# Altium integrated library transistor.IntLib: 186 symbols
Pins are listed as number, name and electrical type; pins without a type are passive.

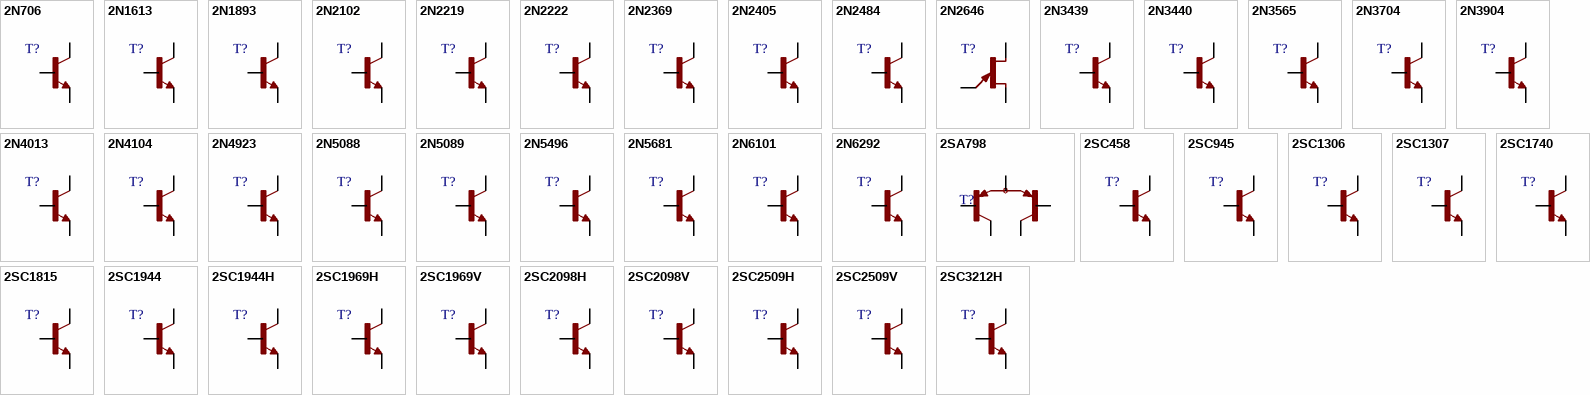
[diagram p0: symbols 2N706 to 2SC3212H]

## 2N706
designator T?, comment NPN TRANSISTOR  (value not drawn)
footprint TO18
pins: 1 E, 2 B, 3 C

## 2N1613
designator T?, comment NPN TRANSISTOR  (value not drawn)
footprint TO5
pins: 1 E, 2 B, 3 C

## 2N1893
designator T?, comment NPN TRANSISTOR  (value not drawn)
footprint TO5
pins: 1 E, 2 B, 3 C

## 2N2102
designator T?, comment NPN TRANSISTOR  (value not drawn)
footprint TO5
pins: 1 E, 2 B, 3 C

## 2N2219
designator T?, comment NPN TRANSISTOR  (value not drawn)
footprint TO5
pins: 1 E, 2 B, 3 C

## 2N2222
designator T?, comment NPN TRANSISTOR  (value not drawn)
footprint TO18
pins: 1 E, 2 B, 3 C

## 2N2369
designator T?, comment NPN TRANSISTOR  (value not drawn)
footprint TO18
pins: 1 E, 2 B, 3 C

## 2N2405
designator T?, comment NPN TRANSISTOR  (value not drawn)
footprint TO5
pins: 1 E, 2 B, 3 C

## 2N2484
designator T?, comment NPN TRANSISTOR  (value not drawn)
footprint TO18
pins: 1 E, 2 B, 3 C

## 2N2646
designator T?, comment UNIJUNCTION TRANSISTOR  (value not drawn)
footprint TO72
pins: 1 E, 2 B1, 4 B2

## 2N3439
designator T?, comment NPN TRANSISTOR  (value not drawn)
footprint TO5
pins: 1 E, 2 B, 3 C

## 2N3440
designator T?, comment NPN TRANSISTOR  (value not drawn)
footprint TO5
pins: 1 E, 2 B, 3 C

## 2N3565
designator T?, comment NPN TRANSISTOR  (value not drawn)
footprint TO92
pins: 1 C, 2 B, 3 E

## 2N3704
designator T?, comment NPN TRANSISTOR  (value not drawn)
footprint TO92
pins: 1 B, 2 C, 3 E

## 2N3904
designator T?, comment NPN TRANSISTOR  (value not drawn)
footprint TO92
pins: 1 C, 2 B, 3 E

## 2N4013
designator T?, comment NPN TRANSISTOR  (value not drawn)
footprint TO18
pins: 1 E, 2 B, 3 C

## 2N4104
designator T?, comment NPN TRANSISTOR  (value not drawn)
footprint TO18
pins: 1 E, 2 B, 3 C

## 2N4923
designator T?, comment NPN TRANSISTOR  (value not drawn)
footprint TO126
pins: 1 E, 2 C, 3 B

## 2N5088
designator T?, comment NPN TRANSISTOR  (value not drawn)
footprint TO92
pins: 1 C, 2 B, 3 E

## 2N5089
designator T?, comment NPN TRANSISTOR  (value not drawn)
footprint TO92
pins: 1 C, 2 B, 3 E

## 2N5496
designator T?, comment NPN TRANSISTOR  (value not drawn)
footprint TO220
pins: 1 B, 2 C, 3 E

## 2N5681
designator T?, comment NPN TRANSISTOR  (value not drawn)
footprint TO5
pins: 1 E, 2 B, 3 C

## 2N6101
designator T?, comment NPN TRANSISTOR  (value not drawn)
footprint TO220
pins: 1 B, 2 C, 3 E

## 2N6292
designator T?, comment NPN TRANSISTOR  (value not drawn)
footprint TO220
pins: 1 B, 2 C, 3 E

## 2SA798
designator T?, comment PNP DIFFERENTAL AMP SIP-5   Source: 2SA798.pdf  (value not drawn)
footprint SIP-5
pins: 1 C1, 2 B1, 3 E, 4 B2, 5 C2

## 2SC458
designator T?, comment NPN Silicon Epitaxial Planar Transistor   Source: SEMTECH ELECTRONICS LTD. ... 2SC458  1.pdf  (value not drawn)
footprint TO92-ECB
pins: B, C, E

## 2SC945
designator T?, comment NPN Silicon Epitaxial Planar Transistor   Source: SEMTECH ELECTRONICS LTD. ... 2SC945  2.pdf  (value not drawn)
footprint TO92-ECB
pins: B, C, E

## 2SC1306
designator T?, comment NPN Transistor Final RF Power Outupt   Source: 2sc1306.pdf  (value not drawn)
footprint TO220BV
pins: 1 B, 2 C, 3 E

## 2SC1307
designator T?, comment NPN Transistor Silicon Epitaxial, High Frequency Power Amplifier   Source: 2SC1307.pdf  (value not drawn)
footprint TO220AV
pins: 1 B, 2 C, 3 E

## 2SC1740
designator T?, comment NPN Silicon Epitaxial Planar Transistor   Source: SEMTECH ELECTRONICS LTD. 2SC1740.pdf  (value not drawn)
footprint TO92-ECB
pins: B, C, E

## 2SC1815
designator T?, comment NPN EPITAXIAL TRANSISTOR   Source: TOSHIBA .. 2SC1815   1.pdf  (value not drawn)
footprint TO92-ECB
pins: B, C, E

## 2SC1944
designator T?, comment NPN Epitaxial Planar Transistor RF Power Amplifier   Source: 2SC1944.pdf  (value not drawn)
footprint T-30_V
pins: 1 B, 2 C, 3 E

## 2SC1944H
designator T?, comment NPN Epitaxial Planar Transistor RF Power Amplifier   Source: 2SC1944.pdf  (value not drawn)
footprint T-30
pins: 1 B, 2 C, 3 E

## 2SC1969H
designator T?, comment NPN Epitaxial Planar Transistor RF Power Amplifier   Source: 2sc1969.pdf  (value not drawn)
footprint T-30
pins: 1 B, 2 C, 3 E

## 2SC1969V
designator T?, comment NPN Epitaxial Planar Transistor RF Power Amplifier   Source: 2sc1969.pdf  (value not drawn)
footprint T-30_V
pins: 1 B, 2 C, 3 E

## 2SC2098H
designator T?, comment NPN Epitaxial Planar Transistor RF Power Amplivier   Source: 2SC2098.pdf  (value not drawn)
footprint TO220
pins: 1 B, 2 C, 3 E

## 2SC2098V
designator T?, comment NPN Epitaxial Planar Transistor RF Power Amplivier   Source: 2SC2098.pdf  (value not drawn)
footprint TO220AV
pins: 1 B, 2 C, 3 E

## 2SC2509H
designator T?, comment NPN Epitaxial Planar Transistor RF Power Amplivier   Source: www.Datasheet4U.com 2SC2905.pdf  (value not drawn)
footprint TO220
pins: 1 B, 2 C, 3 E

## 2SC2509V
designator T?, comment NPN Epitaxial Planar Transistor RF Power Amplivier   Source: www.Datasheet4U.com 2SC2905.pdf  (value not drawn)
footprint TO220AV
pins: 1 B, 2 C, 3 E

## 2SC3212H
designator T?, comment NPN Epitaxial Planar Trnasitor RF Power Amplifier   Source: 2SC3212.pdf  (value not drawn)
footprint TO220
pins: 1 B, 2 C, 3 E

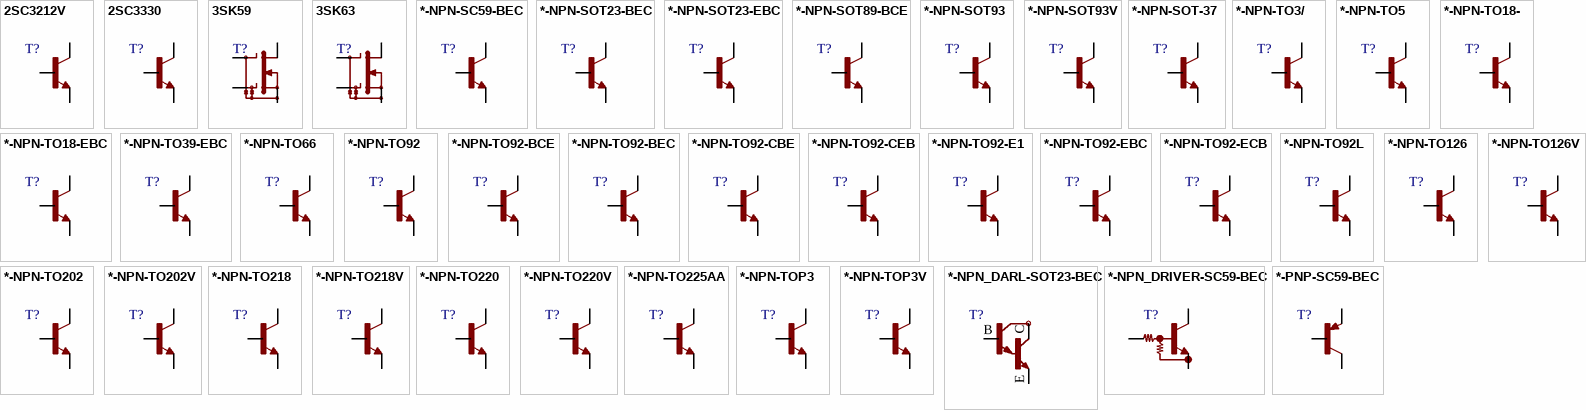
[diagram p1: symbols 2SC3212V to *-PNP-SC59-BEC]

## 2SC3212V
designator T?, comment NPN Epitaxial Planar Trnasitor RF Power Amplifier   Source: 2SC3212.pdf  (value not drawn)
footprint TO220AV
pins: 1 B, 2 C, 3 E

## 2SC3330
designator T?, comment NPN Silicon Epitaxial Planar Transistor   Source: SEMTECH ELECTRONICS LTD. ... 2SC3330 .pdf  (value not drawn)
footprint TO92-ECB
pins: B, C, E

## 3SK59
designator T?, comment N CHANNEL Dual Gate MOS FET VHF Amplifier   Source: 3SK59.pdf  (value not drawn)
footprint TO72
pins: 1 DRAIN, 2 G2, 3 G1, 4 SOURCE

## 3SK63
designator T?, comment N CHANNEL Dual Gate MOS FET VHF Amplifier   Source: 3SK59.pdf  (value not drawn)
footprint TO72
pins: 1 DRAIN, 2 G2, 3 G1, 4 SOURCE

## *-NPN-SC59-BEC
designator T?, comment NPN Transistror   BF959 corrected 2008.03.06  (value not drawn)
footprint SC59-BEC
pins: B, C, E

## *-NPN-SOT23-BEC
designator T?, comment NPN Transistror   BF959 corrected 2008.03.06  (value not drawn)
footprint SOT23-BEC
pins: B, C, E

## *-NPN-SOT23-EBC
designator T?, comment NPN Transistror   BF959 corrected 2008.03.06  (value not drawn)
footprint SOT23-EBC
pins: B, C, E

## *-NPN-SOT89-BCE
designator T?, comment NPN Transistror   BF959 corrected 2008.03.06  (value not drawn)
footprint SOT89-BCE
pins: B, C, E

## *-NPN-SOT93
designator T?, comment NPN Transistror   BF959 corrected 2008.03.06  (value not drawn)
footprint SOT93
pins: B, C, E

## *-NPN-SOT93V
designator T?, comment NPN Transistror   BF959 corrected 2008.03.06  (value not drawn)
footprint SOT93V
pins: B, C, E

## *-NPN-SOT-37
designator T?, comment NPN Transistror   BF959 corrected 2008.03.06  (value not drawn)
footprint SOT37
pins: 1 C, 2 E, 3 B

## *-NPN-TO3/
designator T?, comment NPN Transistror   BF959 corrected 2008.03.06  (value not drawn)
footprint TO3
pins: B, C, E

## *-NPN-TO5
designator T?, comment NPN Transistror   BF959 corrected 2008.03.06  (value not drawn)
footprint TO5
pins: 1 E, 2 B, 3 C

## *-NPN-TO18-
designator T?, comment NPN Transistror   BF959 corrected 2008.03.06  (value not drawn)
footprint TO18-
pins: 1 E, 2 B, 3 C

## *-NPN-TO18-EBC
designator T?, comment NPN Transistror   BF959 corrected 2008.03.06  (value not drawn)
footprint TO18
pins: 1 E, 2 B, 3 C

## *-NPN-TO39-EBC
designator T?, comment NPN Transistror   BF959 corrected 2008.03.06  (value not drawn)
footprint TO39
pins: 1 E, 2 B, 3 C

## *-NPN-TO66
designator T?, comment NPN Transistror   BF959 corrected 2008.03.06  (value not drawn)
footprint TO66
pins: 1 E, 2 B, 3 C

## *-NPN-TO92
designator T?, comment NPN Transistror   BF959 corrected 2008.03.06  (value not drawn)
footprint TO92
pins: 1 E, 2 B, 3 C

## *-NPN-TO92-BCE
designator T?, comment NPN Transistror   BF959 corrected 2008.03.06  (value not drawn)
footprint TO92-BCE
pins: B, C, E

## *-NPN-TO92-BEC
designator T?, comment NPN Transistror   BF959 corrected 2008.03.06  (value not drawn)
footprint TO92-BEC
pins: B, C, E

## *-NPN-TO92-CBE
designator T?, comment NPN Transistror   BF959 corrected 2008.03.06  (value not drawn)
footprint TO92-CBE
pins: B, C, E

## *-NPN-TO92-CEB
designator T?, comment NPN Transistror   BF959 corrected 2008.03.06  (value not drawn)
footprint TO92-CEB
pins: B, C, E

## *-NPN-TO92-E1
designator T?, comment NPN Transistror   BF959 corrected 2008.03.06  (value not drawn)
footprint TO92-E1
pins: 1 C, 2 B, 3 E

## *-NPN-TO92-EBC
designator T?, comment NPN Transistror   BF959 corrected 2008.03.06  (value not drawn)
footprint TO92-EBC
pins: B, C, E

## *-NPN-TO92-ECB
designator T?, comment NPN Transistror   BF959 corrected 2008.03.06  (value not drawn)
footprint TO92-ECB
pins: B, C, E

## *-NPN-TO92L
designator T?, comment NPN Transistror   BF959 corrected 2008.03.06  (value not drawn)
footprint TO92L
pins: 1 E, 2 B, 3 C

## *-NPN-TO126
designator T?, comment NPN Transistror   BF959 corrected 2008.03.06  (value not drawn)
footprint TO126
pins: 1 E, 2 C, 3 B

## *-NPN-TO126V
designator T?, comment NPN Transistror   BF959 corrected 2008.03.06  (value not drawn)
footprint TO126V
pins: 1 E, 2 C, 3 B

## *-NPN-TO202
designator T?, comment NPN Transistror   BF959 corrected 2008.03.06  (value not drawn)
footprint TO202
pins: 1 E, 2 C, 3 B

## *-NPN-TO202V
designator T?, comment NPN Transistror   BF959 corrected 2008.03.06  (value not drawn)
footprint TO202V
pins: 1 E, 2 C, 3 B

## *-NPN-TO218
designator T?, comment NPN Transistror   BF959 corrected 2008.03.06  (value not drawn)
footprint TO218
pins: 1 B, 2 C, 3 E

## *-NPN-TO218V
designator T?, comment NPN Transistror   BF959 corrected 2008.03.06  (value not drawn)
footprint TO218V
pins: 1 B, 2 C, 3 E

## *-NPN-TO220
designator T?, comment NPN Transistror   BF959 corrected 2008.03.06  (value not drawn)
footprint TO220
pins: 1 B, 2 C, 3 E

## *-NPN-TO220V
designator T?, comment NPN Transistror   BF959 corrected 2008.03.06  (value not drawn)
footprint TO220V
pins: 1 B, 2 C, 3 E

## *-NPN-TO225AA
designator T?, comment NPN Transistror   BF959 corrected 2008.03.06  (value not drawn)
footprint TO225AA
pins: 1 B, 2 C, 3 E

## *-NPN-TOP3
designator T?, comment NPN Transistror   BF959 corrected 2008.03.06  (value not drawn)
footprint TOP3
pins: 1 B, 2 C, 3 E

## *-NPN-TOP3V
designator T?, comment NPN Transistror   BF959 corrected 2008.03.06  (value not drawn)
footprint TOP3V
pins: B, C, E

## *-NPN_DARL-SOT23-BEC
designator T?, comment NPN Darlington Transistor  (value not drawn)
footprint SOT23-BEC
pins: B, C, E

## *-NPN_DRIVER-SC59-BEC
designator T?, comment NPN Bias Resistor Transistor  (value not drawn)
footprint SC59-BEC
pins: B, C, E

## *-PNP-SC59-BEC
designator T?, comment PNP Transistror  (value not drawn)
footprint SC59-BEC
pins: B, C, E

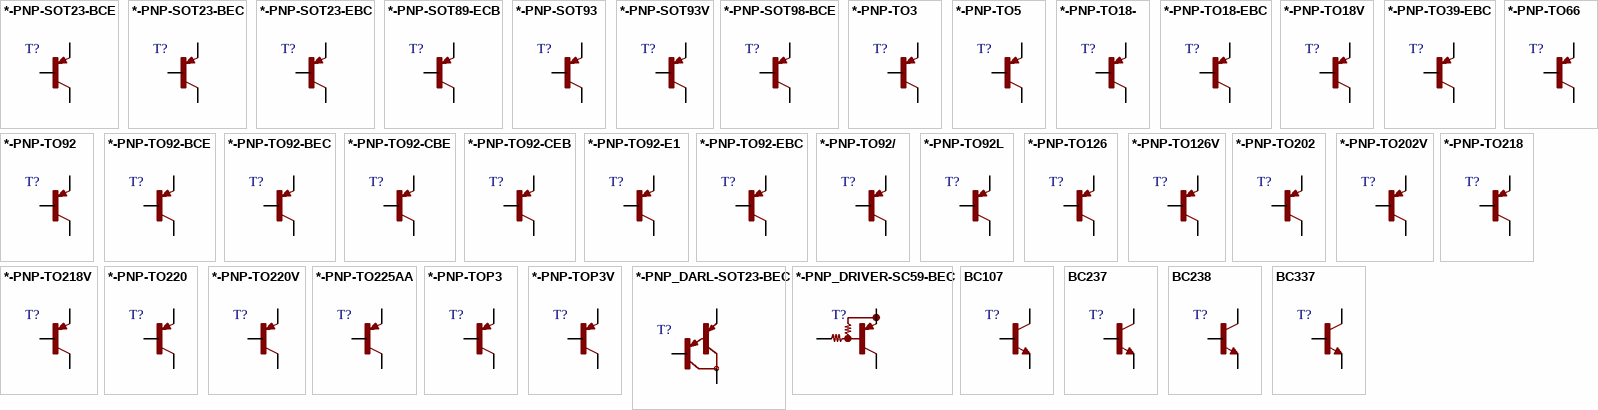
[diagram p2: symbols *-PNP-SOT23-BCE to BC337]

## *-PNP-SOT23-BCE
designator T?, comment PNP Transistror  (value not drawn)
footprint SOT23-BCE
pins: B, C, E

## *-PNP-SOT23-BEC
designator T?, comment PNP Transistror  (value not drawn)
footprint SOT23-BEC
pins: B, C, E

## *-PNP-SOT23-EBC
designator T?, comment PNP Transistror  (value not drawn)
footprint SOT23-EBC
pins: B, C, E

## *-PNP-SOT89-ECB
designator T?, comment PNP Transistror  (value not drawn)
footprint SOT89-ECB
pins: B, C, E

## *-PNP-SOT93
designator T?, comment PNP Transistror  (value not drawn)
footprint SOT93
pins: B, C, E

## *-PNP-SOT93V
designator T?, comment PNP Transistror  (value not drawn)
footprint SOT93V
pins: B, C, E

## *-PNP-SOT98-BCE
designator T?, comment PNP Transistror  (value not drawn)
footprint SOT89-BCE
pins: B, C, E

## *-PNP-TO3
designator T?, comment PNP Transistror  (value not drawn)
footprint TO3
pins: B, C, E

## *-PNP-TO5
designator T?, comment PNP Transistror  (value not drawn)
footprint TO5
pins: 1 E, 2 B, 3 C

## *-PNP-TO18-
designator T?, comment PNP Transistror  (value not drawn)
footprint TO18-
pins: 1 E, 2 B, 3 C

## *-PNP-TO18-EBC
designator T?, comment PNP Transistror  (value not drawn)
footprint TO18
pins: 1 E, 2 B, 3 C

## *-PNP-TO18V
designator T?, comment PNP Transistror  (value not drawn)
footprint TO18V
pins: 1 E, 2 B, 3 C

## *-PNP-TO39-EBC
designator T?, comment PNP Transistror  (value not drawn)
footprint TO39
pins: 1 E, 2 B, 3 C

## *-PNP-TO66
designator T?, comment PNP Transistror  (value not drawn)
footprint TO66
pins: 1 E, 2 B, 3 C

## *-PNP-TO92
designator T?, comment PNP Transistror  (value not drawn)
footprint TO92
pins: 1 E, 2 B, 3 C

## *-PNP-TO92-BCE
designator T?, comment PNP Transistror  (value not drawn)
footprint TO92-BCE
pins: B, C, E

## *-PNP-TO92-BEC
designator T?, comment PNP Transistror  (value not drawn)
footprint TO92-BEC
pins: B, C, E

## *-PNP-TO92-CBE
designator T?, comment PNP Transistror  (value not drawn)
footprint TO92-CBE
pins: B, C, E

## *-PNP-TO92-CEB
designator T?, comment PNP Transistror  (value not drawn)
footprint TO92-CEB
pins: B, C, E

## *-PNP-TO92-E1
designator T?, comment PNP Transistror  (value not drawn)
footprint TO92-E1
pins: 1 C, 2 B, 3 E

## *-PNP-TO92-EBC
designator T?, comment PNP Transistror  (value not drawn)
footprint TO92-EBC
pins: B, C, E

## *-PNP-TO92/
designator T?, comment PNP Transistror  (value not drawn)
footprint TO92/
pins: 1 E, 2 B, 3 C

## *-PNP-TO92L
designator T?, comment PNP Transistror  (value not drawn)
footprint TO92L
pins: 1 E, 2 B, 3 C

## *-PNP-TO126
designator T?, comment PNP Transistror  (value not drawn)
footprint TO126
pins: 1 E, 2 C, 3 B

## *-PNP-TO126V
designator T?, comment PNP Transistror  (value not drawn)
footprint TO126V
pins: 1 E, 2 C, 3 B

## *-PNP-TO202
designator T?, comment PNP Transistror  (value not drawn)
footprint TO202
pins: 1 E, 2 C, 3 B

## *-PNP-TO202V
designator T?, comment PNP Transistror  (value not drawn)
footprint TO202V
pins: 1 E, 2 C, 3 B

## *-PNP-TO218
designator T?, comment PNP Transistror  (value not drawn)
footprint TO218
pins: 1 B, 2 C, 3 E

## *-PNP-TO218V
designator T?, comment PNP Transistror  (value not drawn)
footprint TO218V
pins: 1 B, 2 C, 3 E

## *-PNP-TO220
designator T?, comment PNP Transistror  (value not drawn)
footprint TO220
pins: 1 B, 2 C, 3 E

## *-PNP-TO220V
designator T?, comment PNP Transistror  (value not drawn)
footprint TO220V
pins: 1 B, 2 C, 3 E

## *-PNP-TO225AA
designator T?, comment PNP Transistror  (value not drawn)
footprint TO225AA
pins: 1 B, 2 C, 3 E

## *-PNP-TOP3
designator T?, comment PNP Transistror  (value not drawn)
footprint TOP3
pins: 1 B, 2 C, 3 E

## *-PNP-TOP3V
designator T?, comment PNP Transistror  (value not drawn)
footprint TOP3V
pins: B, C, E

## *-PNP_DARL-SOT23-BEC
designator T?, comment PNP Darlington Transistor  (value not drawn)
footprint SOT23-BEC
pins: B, C, E

## *-PNP_DRIVER-SC59-BEC
designator T?, comment PNP Bias Resistor Transistor  (value not drawn)
footprint SC59-BEC
pins: B, C, E

## BC107
designator T?, comment NPN TRANSISTOR  (value not drawn)
footprint TO18
pins: 1 E, 2 B, 3 C

## BC237
designator T?, comment NPN TRANSISTOR  (value not drawn)
footprint TO92
pins: 1 E, 2 B, 3 C

## BC238
designator T?, comment NPN TRANSISTOR  (value not drawn)
footprint TO92
pins: 1 E, 2 B, 3 C

## BC337
designator T?, comment NPN TRANSISTOR  (value not drawn)
footprint TO92
pins: 1 E, 2 B, 3 C

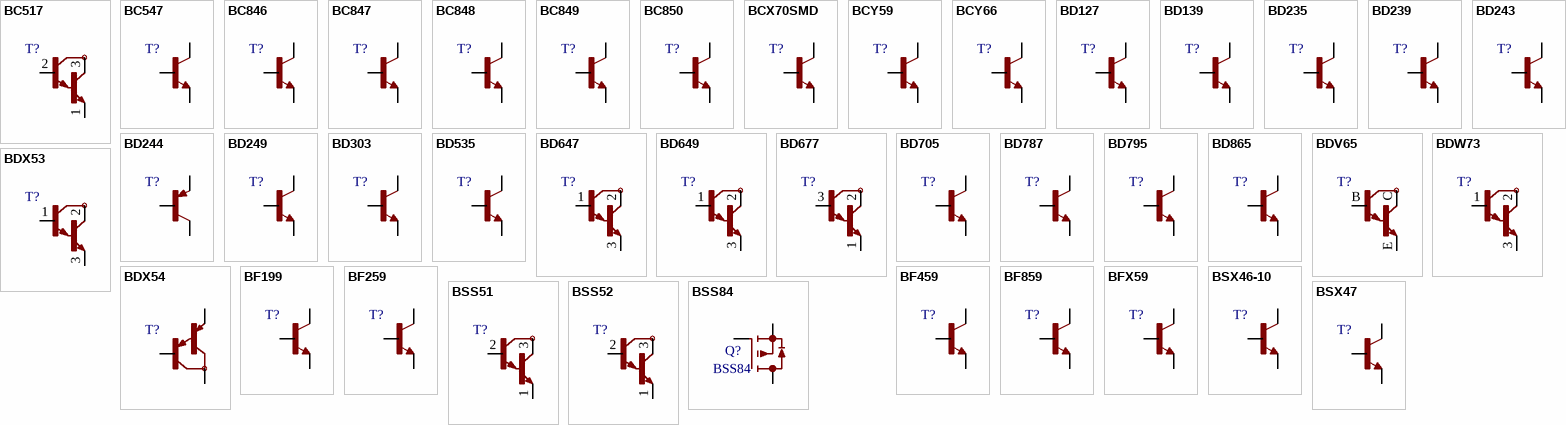
[diagram p3: symbols BC517 to BSX47]

## BC517
designator T?, comment NPN BIPOLAR DARLINGTON TRANSISTOR  (value not drawn)
footprint TO92
pins: 1 E, 2 B, 3 C

## BC547
designator T?, comment NPN TRANSISTOR  (value not drawn)
footprint TO92
pins: 1 E, 2 B, 3 C

## BC846
designator T?, comment NPN TRANSISTOR  (value not drawn)
footprint SOT23
pins: 1 B, 2 E, 3 C

## BC847
designator T?, comment NPN TRANSISTOR  (value not drawn)
footprint SOT23
pins: 1 B, 2 E, 3 C

## BC848
designator T?, comment NPN TRANSISTOR  (value not drawn)
footprint SOT23
pins: 1 B, 2 E, 3 C

## BC849
designator T?, comment NPN TRANSISTOR  (value not drawn)
footprint SOT23
pins: 1 B, 2 E, 3 C

## BC850
designator T?, comment NPN TRANSISTOR  (value not drawn)
footprint SOT23
pins: 1 B, 2 E, 3 C

## BCX70SMD
designator T?, comment NPN TRANSISTOR  (value not drawn)
footprint SOT23
pins: 1 B, 2 E, 3 C

## BCY59
designator T?, comment NPN TRANSISTOR  (value not drawn)
footprint TO18
pins: 1 E, 2 B, 3 C

## BCY66
designator T?, comment NPN TRANSISTOR  (value not drawn)
footprint TO18
pins: 1 E, 2 B, 3 C

## BD127
designator T?, comment NPN TRANSISTOR  (value not drawn)
footprint TO126
pins: 1 E, 2 C, 3 B

## BD139
designator T?, comment NPN TRANSISTOR  (value not drawn)
footprint TO126
pins: 1 E, 2 C, 3 B

## BD235
designator T?, comment NPN TRANSISTOR  (value not drawn)
footprint TO126
pins: 1 E, 2 C, 3 B

## BD239
designator T?, comment NPN TRANSISTOR   Source: http://www.fairchildsemi.com/ds/BD/BD239C.pdf  (value not drawn)
footprint TO220
pins: 1 B, 2 C, 3 E

## BD243
designator T?, comment NPN TRANSISTOR   Source: Motorola Semiconductor, Master Selection Guide Q3/95 SG73 REV 8 page 5.5-4  (value not drawn)
footprint TO220
pins: 1 B, 2 C, 3 E

## BD244
designator T?, comment PNP TRANSISTOR   Source: Motorola Semiconductor, Master Selection Guide Q3/95 SG73 REV 8 page 5.5-5  (value not drawn)
footprint TO220
pins: 1 B, 2 C, 3 E

## BD249
designator T?, comment NPN TRANSISTOR  (value not drawn)
footprint TOP3
pins: 1 B, 2 C, 3 E

## BD303
designator T?, comment NPN TRANSISTOR  (value not drawn)
footprint TO220
pins: 1 B, 2 C, 3 E

## BD535
designator T?, comment NPN TRANSISTOR  (value not drawn)
footprint TO220
pins: 1 E, 2 C, 3 B

## BD647
designator T?, comment NPN BIPOLAR DARLINGTON TRANSISTOR  (value not drawn)
footprint TO220
pins: 1 B, 2 C, 3 E

## BD649
designator T?, comment NPN BIPOLAR DARLINGTON TRANSISTOR  (value not drawn)
footprint TO220
pins: 1 B, 2 C, 3 E

## BD677
designator T?, comment NPN BIPOLAR DARLINGTON TRANSISTOR  (value not drawn)
footprint TO126
pins: 1 E, 2 C, 3 B

## BD705
designator T?, comment NPN TRANSISTOR  (value not drawn)
footprint TO220
pins: 1 B, 2 C, 3 E

## BD787
designator T?, comment NPN TRANSISTOR  (value not drawn)
footprint TO126
pins: 1 E, 2 C, 3 B

## BD795
designator T?, comment NPN TRANSISTOR  (value not drawn)
footprint TO220
pins: 1 E, 2 C, 3 B

## BD865
designator T?, comment NPN TRANSISTOR  (value not drawn)
footprint TO202
pins: 1 E, 2 C, 3 B

## BDV65
designator T?, comment NPN BIPOLAR DARLINGTON TRANSISTOR  (value not drawn)
footprint SOT93
pins: B, C, E

## BDW73
designator T?, comment NPN BIPOLAR DARLINGTON TRANSISTOR  (value not drawn)
footprint TO220
pins: 1 B, 2 C, 3 E

## BDX53
designator T?, comment NPN BIPOLAR DARLINGTON TRANSISTOR  (value not drawn)
footprint TO220
pins: 1 B, 2 C, 3 E

## BDX54
designator T?, comment PNP BIPOLAR DARLINGTON TRANSISTOR   Source: http://www.datasheetcatalog.org/datasheet/mospec/BDX54.pdf  (value not drawn)
footprint TO220
pins: 1 B, 2 C, 3 E

## BF199
designator T?, comment NPN TRANSISTOR  (value not drawn)
footprint TO92
pins: 1 B, 2 E, 3 C

## BF259
designator T?, comment NPN TRANSISTOR  (value not drawn)
footprint TO39
pins: 1 E, 2 B, 3 C

## BF459
designator T?, comment NPN TRANSISTOR  (value not drawn)
footprint TO126
pins: 1 E, 2 C, 3 B

## BF859
designator T?, comment NPN TRANSISTOR  (value not drawn)
footprint TO202
pins: 1 E, 2 C, 3 B

## BFX59
designator T?, comment NPN TRANSISTOR  (value not drawn)
footprint TO72
pins: 1 E, 2 B, 3 C

## BSS51
designator T?, comment NPN BIPOLAR DARLINGTON TRANSISTOR  (value not drawn)
footprint TO39
pins: 1 E, 2 B, 3 C

## BSS52
designator T?, comment NPN BIPOLAR DARLINGTON TRANSISTOR  (value not drawn)
footprint TO39
pins: 1 E, 2 B, 3 C

## BSS84
designator Q?
Vendor: *; Part Number: *; Value: *
footprint SOT23
pins: 1 G, 2 S, 3 D

## BSX46-10
designator T?, comment NPN TRANSISTOR  (value not drawn)
footprint TO39
pins: 1 E, 2 B, 3 C

## BSX47
designator T?, comment NPN TRANSISTOR  (value not drawn)
footprint TO39
pins: 1 E, 2 B, 3 C

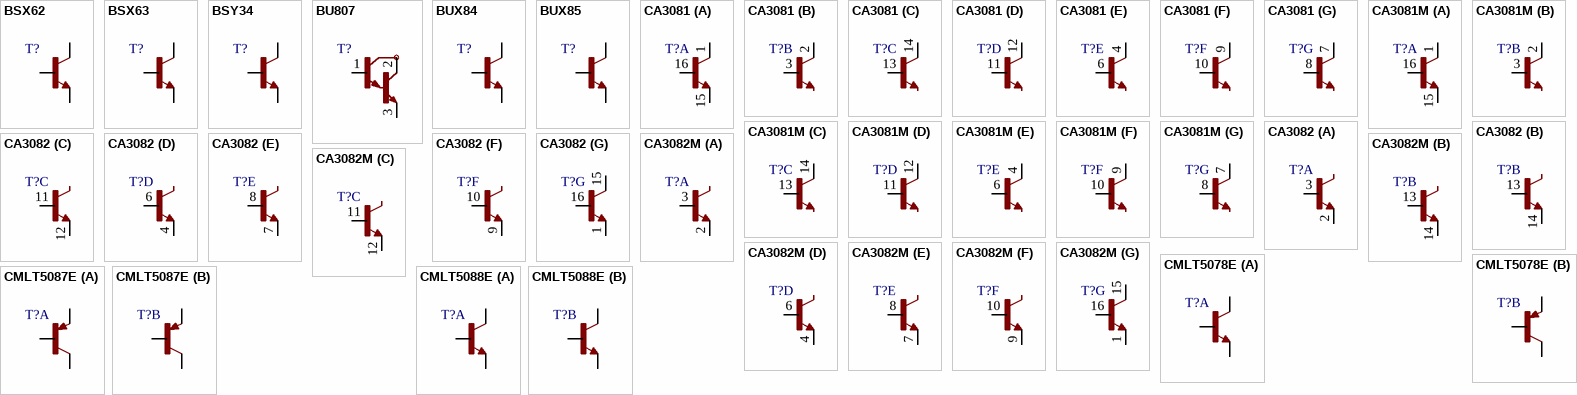
[diagram p4: symbols BSX62 to CMLT5088E]

## BSX62
designator T?, comment NPN TRANSISTOR  (value not drawn)
footprint TO39
pins: 1 E, 2 B, 3 C

## BSX63
designator T?, comment NPN TRANSISTOR  (value not drawn)
footprint TO39
pins: 1 E, 2 B, 3 C

## BSY34
designator T?, comment NPN TRANSISTOR  (value not drawn)
footprint TO39
pins: 1 E, 2 B, 3 C

## BU807
designator T?, comment NPN BIPOLAR DARLINGTON TRANSISTOR  (value not drawn)
footprint TO220
pins: 1 B, 2 C, 3 E

## BUX84
designator T?, comment NPN TRANSISTOR  (value not drawn)
footprint TO220
pins: 1 B, 2 C, 3 E

## BUX85
designator T?, comment NPN TRANSISTOR  (value not drawn)
footprint TO220
pins: 1 B, 2 C, 3 E

## CA3081
designator T?, comment TRANSISTOR ARRAY   general purpose, high current   common emitter  (value not drawn)
footprint DIL16
part A pins: 1 C, 15 E, 16 B
part B pins: 2 C, 3 B
part C pins: 13 B, 14 C
part D pins: 11 B, 12 C
part E pins: 4 C, 6 B
part F pins: 9 C, 10 B
part G pins: 7 C, 8 B

## CA3081M
designator T?, comment TRANSISTOR ARRAY   general purpose, high current   common emitter  (value not drawn)
footprint SO16
part A pins: 1 C, 15 E, 16 B
part B pins: 2 C, 3 B
part C pins: 13 B, 14 C
part D pins: 11 B, 12 C
part E pins: 4 C, 6 B
part F pins: 9 C, 10 B
part G pins: 7 C, 8 B

## CA3082
designator T?, comment TRANSISTOR ARRAY   general purpose, high current   common collector  (value not drawn)
footprint DIL16
part A pins: 2 E, 3 B
part B pins: 13 B, 14 E
part C pins: 11 B, 12 E
part D pins: 4 E, 6 B
part E pins: 7 E, 8 B
part F pins: 9 E, 10 B
part G pins: 1 E, 15 C, 16 B

## CA3082M
designator T?, comment TRANSISTOR ARRAY   general purpose, high current   common collector  (value not drawn)
footprint SO16
part A pins: 2 E, 3 B
part B pins: 13 B, 14 E
part C pins: 11 B, 12 E
part D pins: 4 E, 6 B
part E pins: 7 E, 8 B
part F pins: 9 E, 10 B
part G pins: 1 E, 15 C, 16 B

## CMLT5078E
designator T?, comment DUAL COMPLEMENTARY: L78 TRANSISTORS ENHANCED SPECIFICATION PICOmini(TM) SURFACE MOUNT   Source: CMLT5078%20SERIES.pdf  (value not drawn)
footprint SOT563
part A pins: 1 E, 2 B, 6 C
part B pins: 3 C, 4 E, 5 B

## CMLT5087E
designator T?, comment DUAL PNP/PNP L87 TRANSISTORS ENHANCED SPECIFICATION PICOmini(TM) SURFACE MOUNT   Source: CMLT5078%20SERIES.pdf  (value not drawn)
footprint SOT563
part A pins: 1 E, 2 B, 6 C
part B pins: 3 C, 4 E, 5 B

## CMLT5088E
designator T?, comment DUAL NPN/NPN L88 TRANSISTORS ENHANCED SPECIFICATION PICOmini(TM) SURFACE MOUNT   Source: CMLT5078%20SERIES.pdf  (value not drawn)
footprint SOT563
part A pins: 1 E, 2 B, 6 C
part B pins: 3 C, 4 E, 5 B

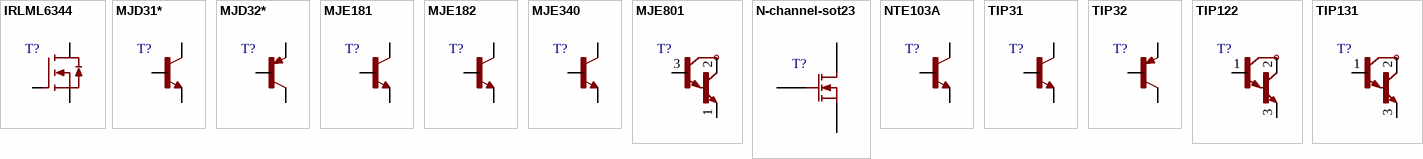
[diagram p5: symbols IRLML6344 to TIP131]

## IRLML6344
designator T?, comment HEXFET Power MOSFET-N  (value not drawn)
Part Number: IRLML6344TRPbF; Vendor: International Rectifier
footprint SOT23
pins: 1 G, 2 S, 3 D

## MJD31*
designator T?, comment Complementary Power Transistors  (value not drawn)
footprint DPAK
pins: 1 B, 3 E, 4 C

## MJD32*
designator T?, comment Complementary Power Transistors  (value not drawn)
footprint DPAK
pins: 1 B, 3 E, 4 C

## MJE181
designator T?, comment NPN TRANSISTOR  (value not drawn)
footprint TO225AA
pins: 1 E, 2 C, 3 B

## MJE182
designator T?, comment NPN TRANSISTOR  (value not drawn)
footprint TO225AA
pins: 1 E, 2 C, 3 B

## MJE340
designator T?, comment NPN TRANSISTOR  (value not drawn)
footprint TO126
pins: 1 E, 2 C, 3 B

## MJE801
designator T?, comment NPN BIPOLAR DARLINGTON TRANSISTOR  (value not drawn)
footprint TO126
pins: 1 E, 2 C, 3 B

## N-channel-sot23
designator T?
footprint SOT23
pins: 1 G, 2 S, 3 D

## NTE103A
designator T?, comment NPN TRANSISTOR  (value not drawn)
footprint TO18-
pins: 1 E, 2 B, 3 C

## TIP31
designator T?, comment NPN Transistor  Medium Power Linear Switching Applications   Source: http://onsemi.com  (value not drawn)
footprint TO220
pins: 1 B, 2 C, 3 E

## TIP32
designator T?, comment PNP Transistor  Medium Power Linear Switching Applications   Source: http://onsemi.com  (value not drawn)
footprint TO220
pins: 1 B, 2 C, 3 E

## TIP122
designator T?, comment NPN BIPOLAR DARLINGTON TRANSISTOR  (value not drawn)
footprint TO220
pins: 1 B, 2 C, 3 E

## TIP131
designator T?, comment NPN BIPOLAR DARLINGTON TRANSISTOR  (value not drawn)
footprint TO220
pins: 1 B, 2 C, 3 E